# Altium schematic symbol library LMV7231.SchLib: 1 symbol
Pins are listed as number, name and electrical type; pins without a type are passive.

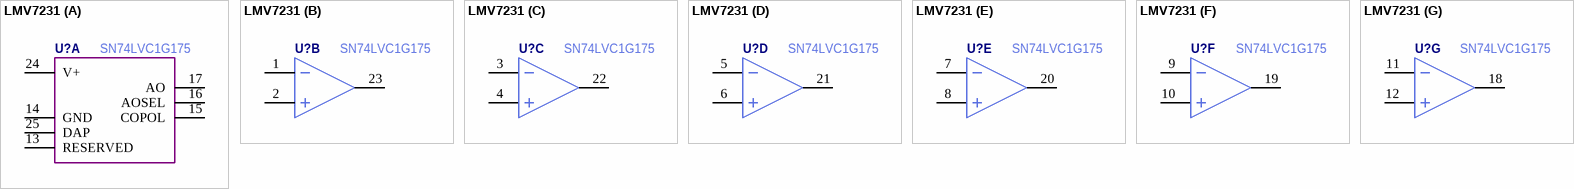
[diagram p0: symbol LMV7231]

## LMV7231
designator U?  Manufacturer Part Number: SN74LVC1G175  (hidden comment: *)
part A pins: 13 RESERVED, 14 GND, 15 COPOL, 16 AOSEL, 17 AO, 24 V+, 25 DAP
part B pins: 1 -IN1, 2 +IN1, 23 CO1
part C pins: 3 -IN2, 4 +IN2, 22 CO2
part D pins: 5 -IN3, 6 +IN3, 21 CO3
part E pins: 7 -IN4, 8 +IN4, 20 CO4
part F pins: 9 -IN5, 10 +IN5, 19 CO5
part G pins: 11 -IN6, 12 +IN6, 18 C06